# EAGLE library part SSW-103-02-S-Q (library con-samtec)
THROUGH-HOLE .025" SQ POST SOCKET Source: Samtec SSW.pdf
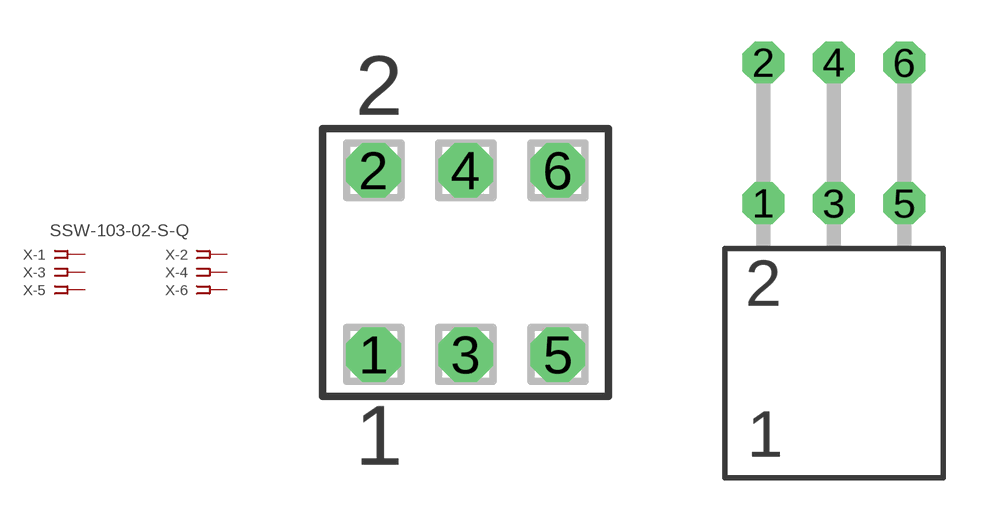
[diagram p145: symbol with the pads of SSW-103-02-S-Q; footprints SSW-103-02-S-Q, SSW-103-02-S-Q-RA]

Designator prefix X; gates -1=FPINV -2=FPIN -3=FPIN -4=FPIN -5=FPIN -6=FPIN

## SSW-103-02-S-Q (MPN: SSW-103-02-S-Q; OC_FARNELL: unknown; OC_NEWARK: 82P2073)  [SSW-103-02-S-Q]
1  -1:1  pas
2  -2:1  pas
3  -3:1  pas
4  -4:1  pas
5  -5:1  pas
6  -6:1  pas

## SSW-103-02-S-QRA (MPN: SSW-103-02-S-Q-RA; OC_FARNELL: unknown; OC_NEWARK: 82P2074)  [SSW-103-02-S-Q-RA]
Pads as for SSW-103-02-S-Q

## Footprint SSW-103-02-S-Q (pad centres in mm)
THROUGH-HOLE .025" SQ POST SOCKET Source: Samtec SSW.pdf
drill 1 pad 1.5 octagon: 1 -2.54,-2.54; 2 -2.54,2.54; 3 0,-2.54; 4 0,2.54; 5 2.54,-2.54; 6 2.54,2.54

## Footprint SSW-103-02-S-Q-RA (pad centres in mm)
THROUGH-HOLE .025" SQ POST SOCKET Source: Samtec SSW.pdf
drill 1 pad 1.5 octagon: 1 -2.54,1.524; 2 -2.54,6.604; 3 0,1.524; 4 0,6.604; 5 2.54,1.524; 6 2.54,6.604